# Altium footprint library LED-Driver.PcbLib: 35 footprints (part 3 of 3)
Each footprint in its own frame and in the unit in brackets; x right, y up, seen from the top. Pads: shape width x height; smd on the part's side, far side on the other; paste and mask are expansions set on the pad; w line width, h text height; cw(c..) or ccw(c..) is an arc to the next point about the centre after c.
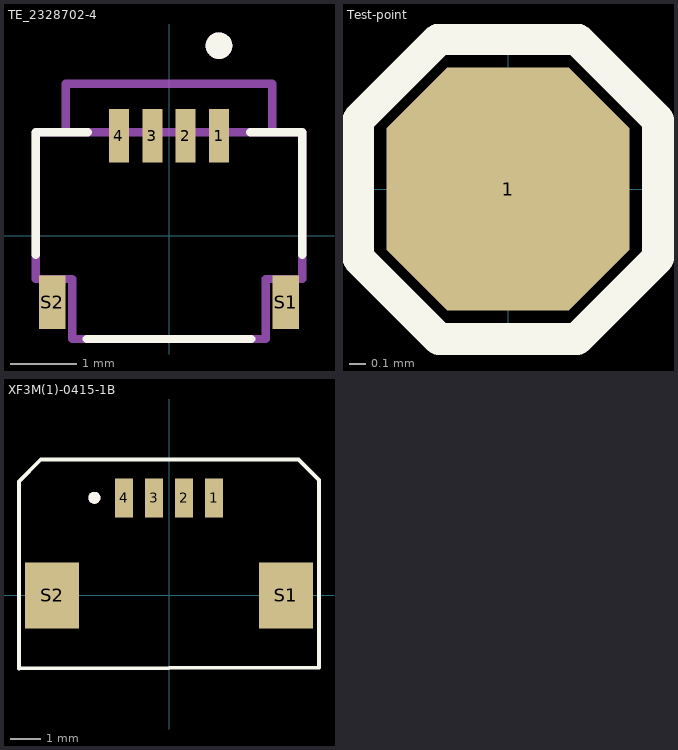
[diagram p2: the footprints below, top view; thin cyan lines are the x and y axes]

## TE_2328702-4 [mm]
height 1.81
pads (6):
  rect 0.3x0.8 smd: 1(0.75,1.5) 2(0.25,1.5) 3(-0.25,1.5) 4(-0.75,1.5)
  rect 0.4x0.8 smd: S1(1.75,-1) S2(-1.75,-1)
Top Overlay:
  circle w0.2: c0.75,2.85 r0.1
  lines w0.127: -2,-0.285 -2,1.55 -1.22,1.55 ; -1.235,-1.55 1.235,-1.55 ; 1.22,1.55 2,1.55 2,-0.285
Mechanical 13:
  circle w0.2: c0.75,2.85 r0.1
  lines w0.127: -1.55,1.55 -2,1.55 -2,-0.65 -1.45,-0.65 -1.45,-1.55 1.45,-1.55 1.45,-0.65 2,-0.65 2,1.55 1.55,1.55 ; -1.55,1.55 -1.55,2.28 1.55,2.28 1.55,1.55 ; -1.55,1.55 1.55,1.55
3D body "step_temp.STEP": height 1.06, standoff 0, extent -2,-1.55 2,2.282

## Test-point [mil]
pads (1):
  oct 60x60 smd: 1(0,0)
Top Overlay:
  lines w7.87: -37,-17 -37,17 -17,37 17,37 37,17 37,-17 17,-37 -17,-37 -37,-17

## XF3M(1)-0415-1B [mm]
pads (6):
  rect 0.6x1.3 smd: 1(1.503,3.25) 2(0.503,3.25) 3(-0.497,3.25) 4(-1.497,3.25)
  rect 1.8x2.2 smd: S1(3.9,0) S2(-3.9,0)
Top Overlay:
  circle w0.2: c-2.489,3.25 r0.1
  lines w0.127: -5,-2.437 -5,3.796 -4.275,4.521 4.318,4.521 5,3.839 5,-2.412 -5,-2.437
Mechanical 13:
  circle w0.2: c-2.489,3.25 r0.1
3D body "xf3m_1_-0415-1b-r100.stp": height 1.97, standoff -0.03, extent -4.285,-2.104 4.315,4.296